# Altium schematic symbol library CAP_Default.Schlib: 1 symbol
Pins are listed as number, name and electrical type; pins without a type are passive.

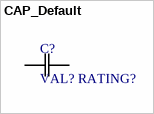
[diagram p0: symbol CAP_Default]

## CAP_Default
designator C?, comment VAL? RATING?
Default Symbol for Capacitors; Temperature Coefficient: X7R; Tolerance: 10%; Rating: 25V; Operating Temperature: -55°C ~ 125°C
footprint 0805
pins: 1 C1, 2 C2